# Altium schematic symbol library QD354801_LCD_Schematic_Package_library.SCHLIB: 1 symbol
Pins are listed as number, name and electrical type; pins without a type are passive.

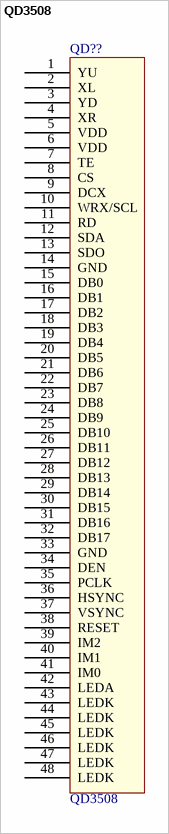
[diagram p0: symbol QD3508]

## QD3508
designator QD??
footprint QD3508
pins: 1 YU, 2 XL, 3 YD, 4 XR, 5 VDD, 6 VDD, 7 TE, 8 CS, 9 DCX, 10 WRX/SCL, 11 RD, 12 SDA, 13 SDO, 14 GND, 15 DB0, 16 DB1, 17 DB2, 18 DB3, 19 DB4, 20 DB5, 21 DB6, 22 DB7, 23 DB8, 24 DB9, 25 DB10, 26 DB11, 27 DB12, 28 DB13, 29 DB14, 30 DB15, 31 DB16, 32 DB17, 33 GND, 34 DEN, 35 PCLK, 36 HSYNC, 37 VSYNC, 38 RESET, 39 IM2, 40 IM1, 41 IM0, 42 LEDA, 43 LEDK, 44 LEDK, 45 LEDK, 46 LEDK, 47 LEDK, 48 LEDK